# Altium footprint library mpu9250.PcbLib: 1 footprints
Each footprint in its own frame and in the unit in brackets; x right, y up, seen from the top. Pads: shape width x height; smd on the part's side, far side on the other; paste and mask are expansions set on the pad; w line width, h text height; cw(c..) or ccw(c..) is an arc to the next point about the centre after c.
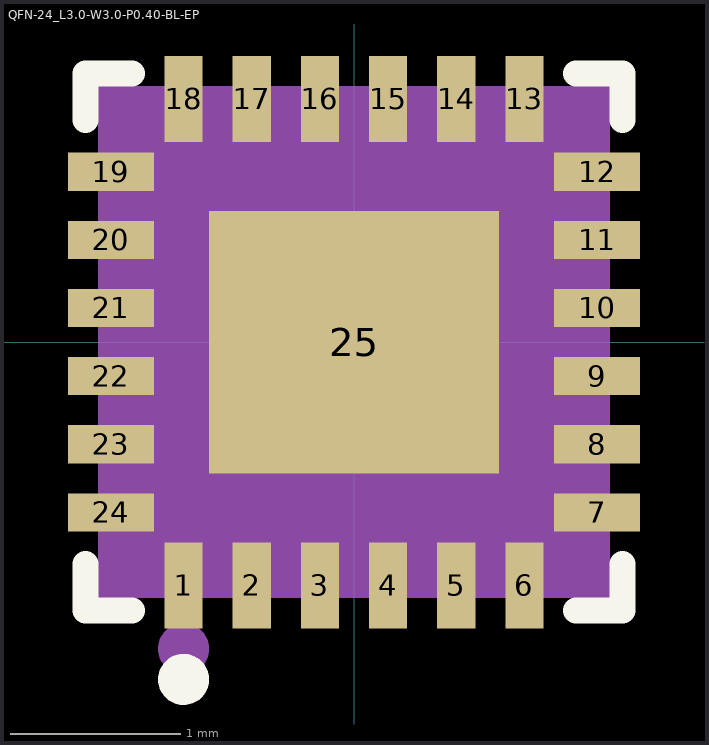
[diagram p0: the footprint, top view; thin cyan lines are the x and y axes]

## QFN-24_L3.0-W3.0-P0.40-BL-EP [mm]
pads (25):
  rect 0.224x0.505 smd: 1(-1,-1.428) 2(-0.6,-1.428) 3(-0.2,-1.428) 4(0.2,-1.428) 5(0.6,-1.428) 6(1,-1.428) 13(1,1.428) 14(0.6,1.428) 15(0.2,1.428) 16(-0.2,1.428) 17(-0.6,1.428) 18(-1,1.428)
  rect 0.505x0.224 smd: 7(1.428,-1) 8(1.428,-0.6) 9(1.428,-0.2) 10(1.428,0.2) 11(1.428,0.6) 12(1.428,1) 19(-1.428,1) 20(-1.428,0.6) 21(-1.428,0.2) 22(-1.428,-0.2) 23(-1.428,-0.6) 24(-1.428,-1)
  rect 1.7x1.54 smd: 25(0,0)
Top Overlay:
  circle w0.15: c-1,-1.98 r0.075
  lines w0.152: -1.576,-1.303 -1.576,-1.576 -1.303,-1.576 ; -1.576,1.303 -1.576,1.576 -1.303,1.576 ; 1.303,-1.576 1.576,-1.576 1.576,-1.303 ; 1.303,1.576 1.576,1.576 1.576,1.303
Mechanical 4:
  region: -1.5,-1.5 -1.5,1.5 1.5,1.5 1.5,-1.5
Mechanical 5:
  region: -0.85,-0.616 -0.85,0.77 0.85,0.77 0.85,-0.77 -0.696,-0.77
  region: -1.2,-1.1 -1.2,-0.9 -1.5,-0.9 -1.5,-1.1
  region: -1.2,-0.7 -1.2,-0.5 -1.5,-0.5 -1.5,-0.7
  region: -1.2,-0.3 -1.2,-0.1 -1.5,-0.1 -1.5,-0.3
  region: -1.2,0.1 -1.2,0.3 -1.5,0.3 -1.5,0.1
  region: -1.2,0.5 -1.2,0.7 -1.5,0.7 -1.5,0.5
  region: -1.2,0.9 -1.2,1.1 -1.5,1.1 -1.5,0.9
  region: -1.1,1.5 -1.1,1.2 -0.9,1.2 -0.9,1.5
  region: -0.7,1.5 -0.7,1.2 -0.5,1.2 -0.5,1.5
  region: -0.3,1.5 -0.3,1.2 -0.1,1.2 -0.1,1.5
  region: 0.1,1.5 0.1,1.2 0.3,1.2 0.3,1.5
  region: 0.5,1.5 0.5,1.2 0.7,1.2 0.7,1.5
  region: 0.9,1.5 0.9,1.2 1.1,1.2 1.1,1.5
  region: 1.2,0.9 1.2,1.1 1.5,1.1 1.5,0.9
  region: 1.2,0.5 1.2,0.7 1.5,0.7 1.5,0.5
  region: 1.2,0.1 1.2,0.3 1.5,0.3 1.5,0.1
  region: 1.2,-0.3 1.2,-0.1 1.5,-0.1 1.5,-0.3
  region: 1.2,-0.7 1.2,-0.5 1.5,-0.5 1.5,-0.7
  region: 1.2,-1.1 1.2,-0.9 1.5,-0.9 1.5,-1.1
  region: 0.9,-1.5 0.9,-1.2 1.1,-1.2 1.1,-1.5
  region: 0.5,-1.5 0.5,-1.2 0.7,-1.2 0.7,-1.5
  region: 0.1,-1.5 0.1,-1.2 0.3,-1.2 0.3,-1.5
  region: -0.3,-1.5 -0.3,-1.2 -0.1,-1.2 -0.1,-1.5
  region: -0.7,-1.5 -0.7,-1.2 -0.5,-1.2 -0.5,-1.5
  region: -1.1,-1.5 -1.1,-1.2 -0.9,-1.2 -0.9,-1.5
Mechanical 6:
  circle w0.06: c-1.5,-1.5 r0.03
Mechanical 15:
  circle w0.15: c-1,-1.8 r0.075